# Altium schematic symbol library INA228AIDGSR.SchLib: 1 symbol
Pins are listed as number, name and electrical type; pins without a type are passive.

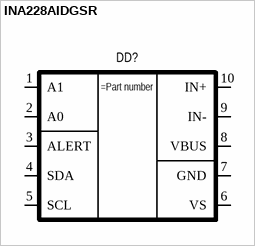
[diagram p0: symbol INA228AIDGSR]

## INA228AIDGSR
designator DD?
85-V, 20-Bit, Ultra-Precise Power/Energy/Charge Monitor With I / 2C Interface
pins: 1 A1 (power), 2 A0 (power), 3 ALERT (power), 4 SDA (power), 5 SCL (power), 6 VS (power), 7 GND (power), 8 VBUS (power), 9 IN- (power), 10 IN+ (power)